# EAGLE library part OV6920 (library omnivision)
CMOS Analaog NTSC CAMERACHIP (TM) Sensor with OmniPixel(R) Technology Source: http://www.ovt.com .. OV6920_DS+(1.1).pdf
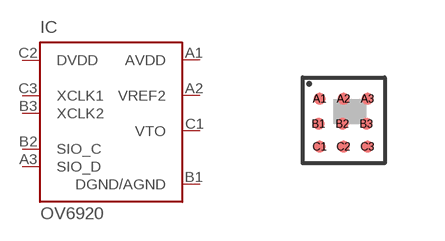
[diagram p0: symbol with the pads of OV6920; footprint OV6920]

Designator prefix IC

## OV6920 (OC_FARNELL: unknown; OC_NEWARK: unknown)  [OV6920]
A1  AVDD  in
A2  VREF2  in
A3  SIO_D
B1  DGND/AGND  in
B2  SIO_C  in
B3  XCLK2  out
C1  VTO  out
C2  DVDD  in
C3  XCLK1  in

## Footprint OV6920 (pad centres in mm)
CMOS Analaog NTSC CAMERACHIP (TM) Sensor with OmniPixel(R) Technology Source: http://www.ovt.com .. OV6920_DS+(1.1).pdf
smd 0.3 x 0.3: A1 -0.6,0.54; A2 0,0.54; A3 0.6,0.54; B1 -0.63,-0.09; B2 -0.03,-0.09; B3 0.57,-0.09; C1 -0.6,-0.66; C2 0,-0.66; C3 0.6,-0.66